# Altium integrated library Remoter.IntLib: 22 symbols
Pins are listed as number, name and electrical type; pins without a type are passive.

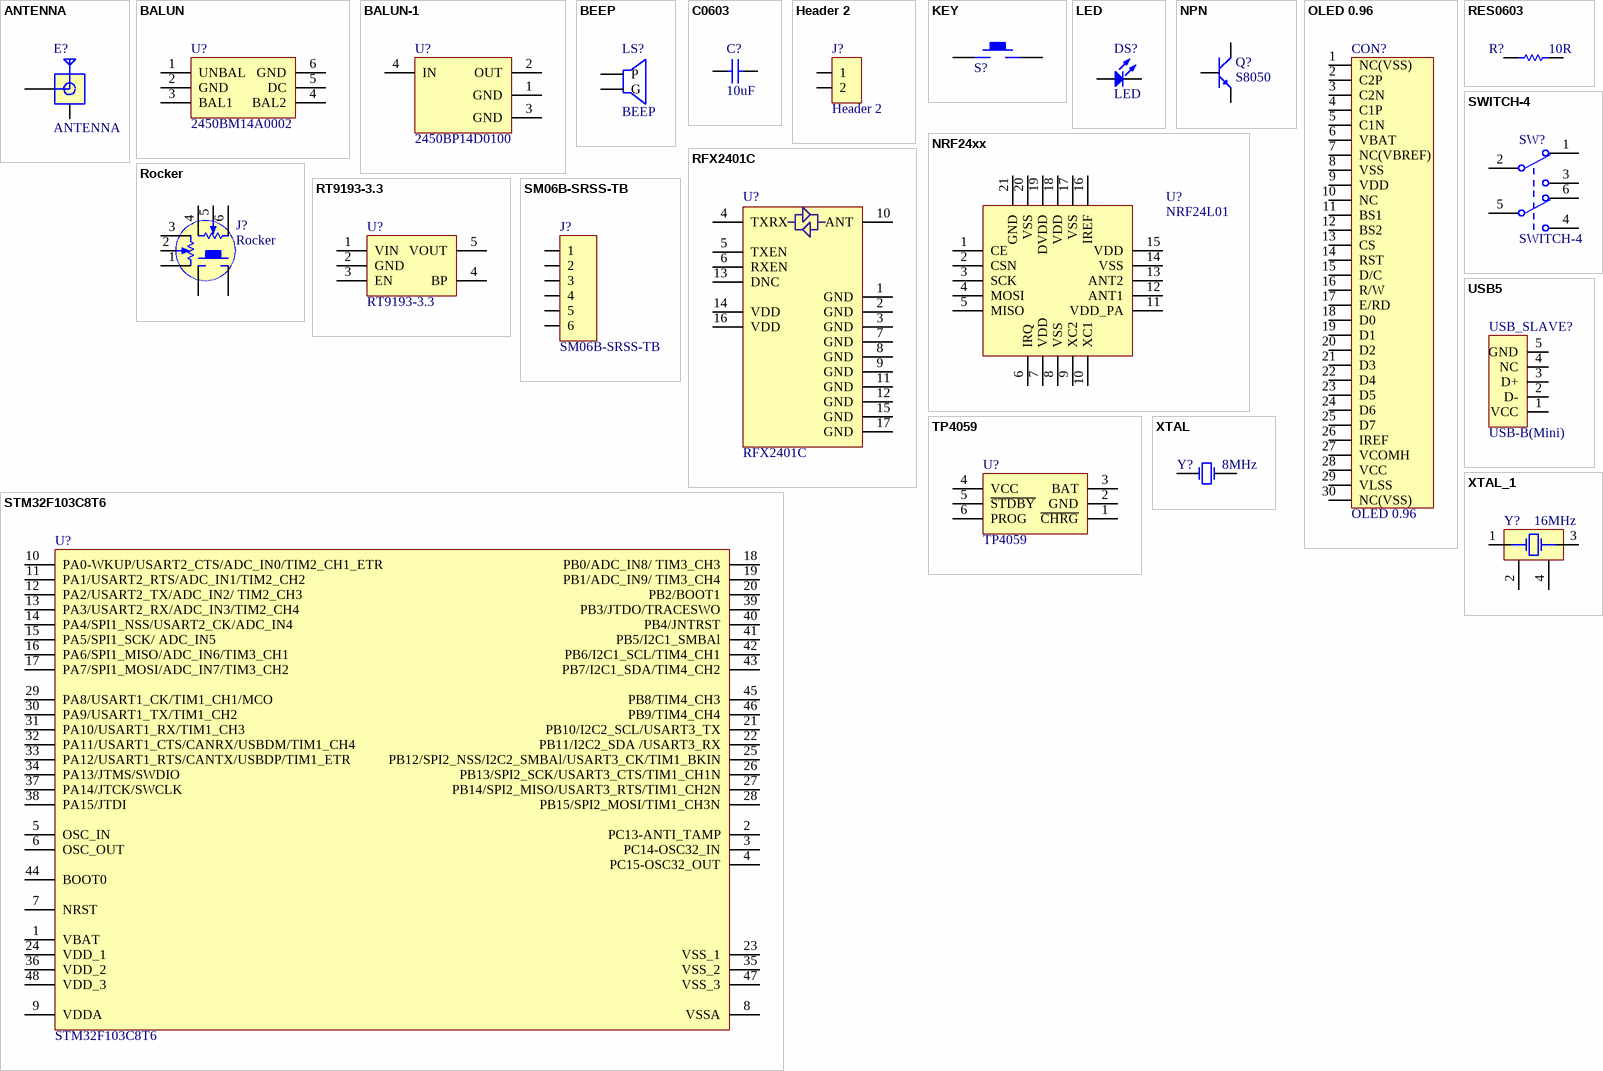
[diagram p0: symbols ANTENNA to XTAL_1]

## ANTENNA
designator E?
UnitPrice: 1.3
footprint AN9520
footprint ANT2.4G
footprint AN3216
footprint SMA-KHD
pins: 1, 2 (power)

## BALUN
designator U?, comment 2450BM14A0002
footprint 0603-6
pins: 1 UNBAL, 2 GND, 3 BAL1, 4 BAL2, 5 DC, 6 GND

## BALUN-1
designator U?, comment 2450BP14D0100
footprint BALUN_250BP
pins: 1 GND, 2 OUT, 3 GND, 4 IN

## BEEP
designator LS?
蜂鸣器; UnitPrice: 0.5
footprint BEEP-9
pins: 1 P, 2 G

## C0603
designator C?, comment 10uF
电容; Published: 8-Jun-2000; LatestRevisionDate: 17-Jul-2002; LatestRevisionNote: Re-released for DXP Platform.; PackageReference: RAD-0.3; Publisher: Altium Limited; PackageDescription: Radial Cap, Thru-Hole; 2 Leads; 0.3 in Pin Spacing; UnitPrice: 0.02
footprint C0603 (Chip Capacitor, Body 1.6x0.8mm, IPC High Density)
pins: 1, 2

## Header 2
designator J?
Header, 2-Pin; LatestRevisionDate: 17-Jul-2002; LatestRevisionNote: Re-released for DXP Platform.; Publisher: Altium Limited
footprint HDR1X2
footprint HDR1X2-2MM
pins: 1, 2

## KEY
designator S?  (value not drawn)
普通轻触按钮
footprint KEY-12X12X7.5
footprint DSW-KEY-SOT-4_5x4_5 (尺寸大小4.5x4.5mm贴片)
footprint DSW-KFC-022S-H2.5
footprint DSW-KEY-SOT-4X4X1.5 (尺寸大小4mmx4mmx1.5mm贴片)
footprint KEY_M
footprint KEY_MP3_3*4
footprint KEY-3X6X3.5-C
pins: 1, 2

## LED
designator DS?
Typical RED, GREEN, YELLOW, AMBER GaAs LED; Published: 8-Jun-2000; LatestRevisionDate: 17-Jul-2002; LatestRevisionNote: Re-released for DXP Platform.; PackageDocument: Feb-2002; PackageReference: 3.2X1.6X1.1; Publisher: Altium Limited; UnitPrice: 0.05
footprint LED0805
footprint LED0603
footprint DLED-4MM
footprint LED-2-1206
pins: 1 A, 2 K

## NPN
designator Q?, comment S8050
8050/BCW846/BCW847
footprint SOT-23R
pins: 1 E, 2 B, 3 C

## NRF24xx
designator U?, comment NRF24L01
footprint QFN20
pins: 1 CE, 2 CSN, 3 SCK, 4 MOSI, 5 MISO, 6 IRQ, 7 VDD, 8 VSS, 9 XC2, 10 XC1, 11 VDD_PA, 12 ANT1, 13 ANT2, 14 VSS, 15 VDD, 16 IREF, 17 VSS, 18 VDD, 19 DVDD, 20 VSS, 21 GND

## OLED 0.96
designator CON?
footprint OLED_0.96
footprint OLED_0.96-L
pins: 1 NC(VSS), 2 C2P, 3 C2N, 4 C1P, 5 C1N, 6 VBAT, 7 NC(VBREF), 8 VSS, 9 VDD, 10 NC, 11 BS1, 12 BS2, 13 CS, 14 RST, 15 D/C, 16 R/W, 17 E/RD, 18 D0, 19 D1, 20 D2, 21 D3, 22 D4, 23 D5, 24 D6, 25 D7, 26 IREF, 27 VCOMH, 28 VCC, 29 VLSS, 30 NC(VSS)

## RES0603
designator R?, comment 10R
电阻; Published: 8-Jun-2000; LatestRevisionDate: 17-Jul-2002; LatestRevisionNote: Re-released for DXP Platform.; PackageReference: AXIAL-0.3; Publisher: Altium Limited; PackageDescription: Axial Device, Thru-Hole; 2 Leads; 0.3 in Pin Spacing
footprint R0603 (Chip Resistor, Body 1.6x0.8mm, IPC High Density)
pins: 1, 2

## RFX2401C
designator U?
footprint QFN-16
pins: 1 GND, 2 GND, 3 GND, 4 TXRX, 5 TXEN, 6 RXEN, 7 GND, 8 GND, 9 GND, 10 ANT, 11 GND, 12 GND, 13 DNC, 14 VDD, 15 GND, 16 VDD, 17 GND

## Rocker
designator J?
航模摇杆
footprint Rocker-RKJXV1224005
pins: 1, 2, 3, 4, 5, 6, J1, J2

## RT9193-3.3
designator U?
footprint SOT-23-5
pins: 1 VIN, 2 GND, 3 EN, 4 BP, 5 VOUT

## SM06B-SRSS-TB
designator J?
footprint SM06B-SRSS-TB (1mm)
pins: 1, 2, 3, 4, 5, 6

## STM32F103C8T6
designator U?
footprint LQFP-48
footprint UFQFPN48
pins: 1 VBAT, 2 PC13-ANTI_TAMP, 3 PC14-OSC32_IN, 4 PC15-OSC32_OUT, 5 OSC_IN, 6 OSC_OUT, 7 NRST, 8 VSSA, 9 VDDA, 10 PA0-WKUP/USART2_CTS/ADC_IN0/TIM2_CH1_ETR, 11 PA1/USART2_RTS/ADC_IN1/TIM2_CH2, 12 PA2/USART2_TX/ADC_IN2/ TIM2_CH3, 13 PA3/USART2_RX/ADC_IN3/TIM2_CH4, 14 PA4/SPI1_NSS/USART2_CK/ADC_IN4, 15 PA5/SPI1_SCK/ ADC_IN5, 16 PA6/SPI1_MISO/ADC_IN6/TIM3_CH1, 17 PA7/SPI1_MOSI/ADC_IN7/TIM3_CH2, 18 PB0/ADC_IN8/ TIM3_CH3, 19 PB1/ADC_IN9/ TIM3_CH4, 20 PB2/BOOT1, 21 PB10/I2C2_SCL/USART3_TX, 22 PB11/I2C2_SDA /USART3_RX, 23 VSS_1, 24 VDD_1, 25 PB12/SPI2_NSS/I2C2_SMBAl/USART3_CK/TIM1_BKIN, 26 PB13/SPI2_SCK/USART3_CTS/TIM1_CH1N, 27 PB14/SPI2_MISO/USART3_RTS/TIM1_CH2N, 28 PB15/SPI2_MOSI/TIM1_CH3N, 29 PA8/USART1_CK/TIM1_CH1/MCO, 30 PA9/USART1_TX/TIM1_CH2, 31 PA10/USART1_RX/TIM1_CH3, 32 PA11/USART1_CTS/CANRX/USBDM/TIM1_CH4, 33 PA12/USART1_RTS/CANTX/USBDP/TIM1_ETR, 34 PA13/JTMS/SWDIO, 35 VSS_2, 36 VDD_2, 37 PA14/JTCK/SWCLK, 38 PA15/JTDI, 39 PB3/JTDO/TRACESWO, 40 PB4/JNTRST, 41 PB5/I2C1_SMBAl, 42 PB6/I2C1_SCL/TIM4_CH1, 43 PB7/I2C1_SDA/TIM4_CH2, 44 BOOT0, 45 PB8/TIM4_CH3, 46 PB9/TIM4_CH4, 47 VSS_3, 48 VDD_3

## SWITCH-4
designator SW?
footprint SW-MSS22D18G2
pins: 1, 2, 3, 4, 5, 6

## TP4059
designator U?
锂电池充电IC
footprint SOT23-6
pins: 1 ~{CHRG}, 2 GND, 3 BAT, 4 VCC, 5 ~{STDBY}, 6 PROG

## USB5
designator USB_SLAVE?, comment USB-B(Mini)
footprint USB-V3
footprint USB-MicroUSB (MicroUSB)
pins: 1 VCC, 2 D-, 3 D+, 4 NC, 5 GND

## XTAL
designator Y?, comment 8MHz
Crystal Oscillator; Published: 8-Jun-2000; LatestRevisionDate: 17-Jul-2002; LatestRevisionNote: Re-released for DXP Platform.; Publisher: Altium Limited
simulation model XTAL (Spice Subcircuit)
footprint X-DT-26
footprint X-HC49-SMT (贴片晶振)
footprint X-HC49S
footprint X-MC146
footprint X-NX5032GA (贴片封装晶振)
footprint X-3215
pins: 1 OSC1, 2 OSC2

## XTAL_1
designator Y?, comment 16MHz
Crystal Oscillator; Published: 8-Jun-2000; LatestRevisionDate: 17-Jul-2002; LatestRevisionNote: Re-released for DXP Platform.; Publisher: Altium Limited
simulation model XTAL (Spice Subcircuit)
footprint X-TSX-3225 (26MHz Crystal)
pins: 1, 2, 3, 4